# Altium footprint library Connector_PinHeader_2.0mm.PcbLib: 1 footprints
Each footprint in its own frame and in the unit in brackets; x right, y up, seen from the top. Pads: shape width x height; smd on the part's side, far side on the other; paste and mask are expansions set on the pad; w line width, h text height; cw(c..) or ccw(c..) is an arc to the next point about the centre after c.
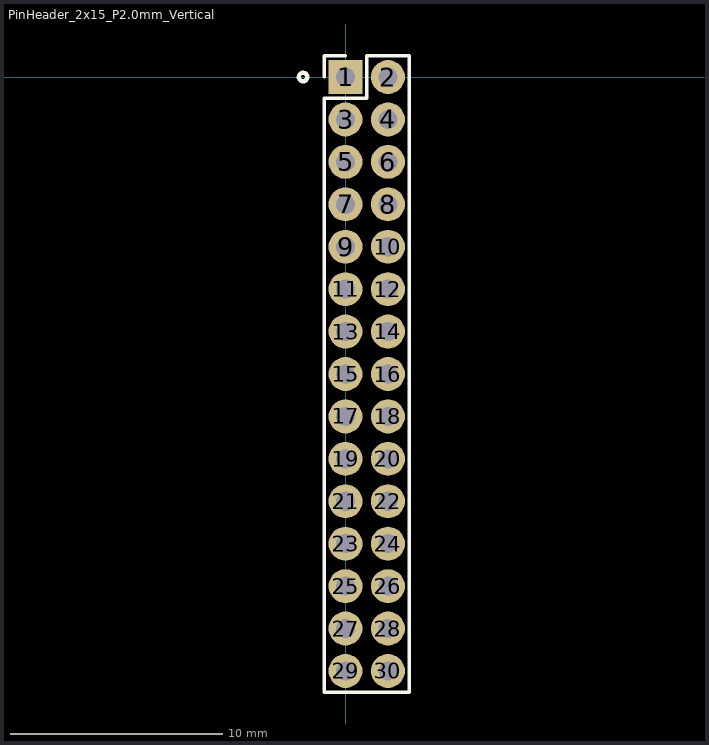
[diagram p0: the footprint, top view; thin cyan lines are the x and y axes]

## PinHeader_2x15_P2.0mm_Vertical [mm]
pads (30):
  rect 1.6x1.6 hole 0.9: 1(0,0)
  round 1.6 hole 0.9: 2(2,0) 3(0,-2) 4(2,-2) 5(0,-4) 6(2,-4) 7(0,-6) 8(2,-6) 9(0,-8) 10(2,-8) 11(0,-10) 12(2,-10) 13(0,-12) 14(2,-12) 15(0,-14) 16(2,-14) 17(0,-16) 18(2,-16) 19(0,-18) 20(2,-18) 21(0,-20) 22(2,-20) 23(0,-22) 24(2,-22) 25(0,-24) 26(2,-24) 27(0,-26) 28(2,-26) 29(0,-28) 30(2,-28)
Top Overlay:
  circle w0.2: c-2,0 r0.2
  lines w0.152: -1,0 -1,1 0,1 ; -1,-29 -1,-1 1,-1 1,1 3,1 3,-29 -1,-29
3D body "PinHeader_2x15_P2.00mm_Vertical.step": height 6, standoff -2.8, extent -1,-29 3,1